# EAGLE library part MP3V5010 (library MP3V5010DP)
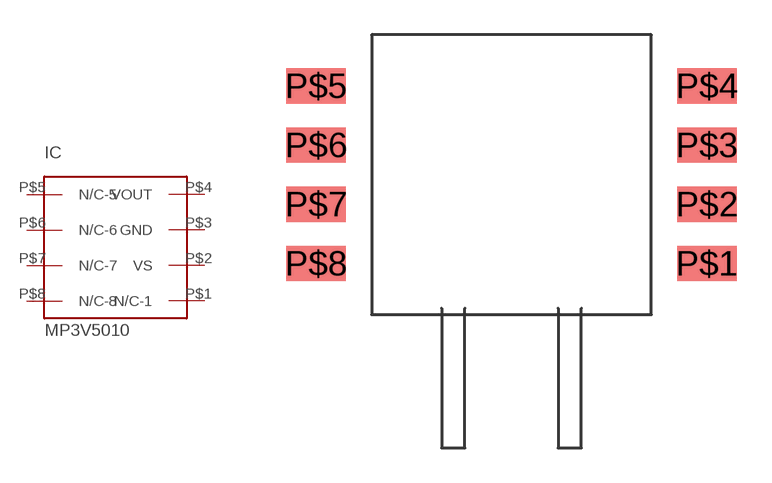
[diagram p0: symbol with the pads of CASE1351; footprint CASE1351]

Designator prefix IC

## MP3V5010  [CASE1351]
P$1  N/C-1
P$2  VS
P$3  GND
P$4  VOUT
P$5  N/C-5
P$6  N/C-6
P$7  N/C-7
P$8  N/C-8

## Footprint CASE1351 (pad centres in mm)
smd 2.54 x 1.52: P$1 8.38,-5.08; P$2 8.38,-2.54; P$3 8.38,0; P$4 8.38,2.54; P$5 -8.38,2.54; P$6 -8.38,0; P$7 -8.38,-2.54; P$8 -8.38,-5.08